# EAGLE library part 1554ИД14 (library std-logic-1554series)
АЕЯР.431200.182-10 ТУ 1554ИД14 - Два дешифратора-демультиплексора 2 - 4 с инверсией на выходе. Изготовитель: ОАО "ИНТЕГРАЛ", г. Минск, р. Беларусь. Технические условия (ТБМ): АЕЯР.431200.182-10 ТУ Технические условия (не ТБМ): АЕЯР.431200.093-07 ТУ
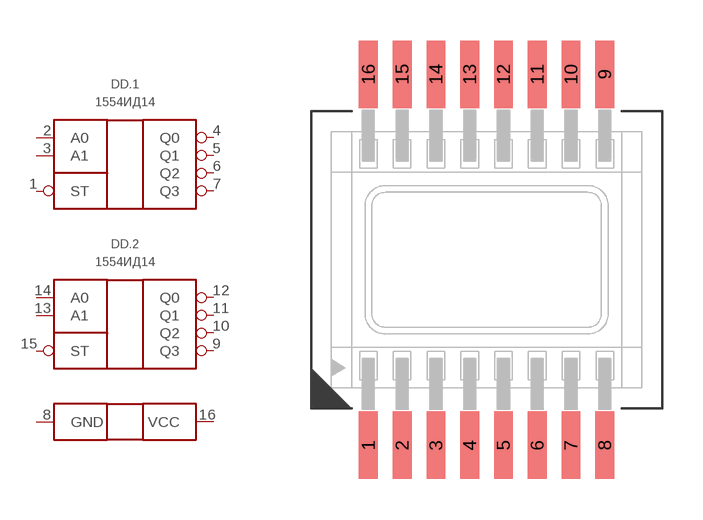
[diagram p31: symbol with the pads of 402.16-32; footprint 402.16-32]

Designator prefix DD; gates .1=1554ИД14 .2=1554ИД14 G$3=1554_PWR1

## 1554ИД14ТБМ  [402.16-32]
1  .1:ST  in
2  .1:A0  in
3  .1:A1  in
4  .1:Q0  out
5  .1:Q1  out
6  .1:Q2  out
7  .1:Q3  out
8  G$3:GND  pwr
9  .2:Q3  out
10  .2:Q2  out
11  .2:Q1  out
12  .2:Q0  out
13  .2:A1  in
14  .2:A0  in
15  .2:ST  in
16  G$3:VCC  pwr

## Footprint 402.16-32 (pad centres in mm)
smd 0.7 x 2.5: 1 -4.375,-6.875; 2 -3.125,-6.875; 3 -1.875,-6.875; 4 -0.625,-6.875; 5 0.625,-6.875; 6 1.875,-6.875; 7 3.125,-6.875; 8 4.375,-6.875; 9 4.375,6.875; 10 3.125,6.875; 11 1.875,6.875; 12 0.625,6.875; 13 -0.625,6.875; 14 -1.875,6.875; 15 -3.125,6.875; 16 -4.375,6.875